# Altium integrated library 6339160-1.IntLib: 1 symbol
Pins are listed as number, name and electrical type; pins without a type are passive.

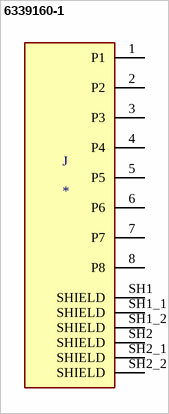
[diagram p0: symbol 6339160-1]

## 6339160-1
designator J
PCB Mounted Jacks - Single Port, Multi-port and Stacked MJ, RJ45, SMT, SHLD, PANEL GRD; MP: 6339160-1; Centerline_Pitch: 1.02 mm[.04 in]; MF: TE Connectivity; Number_of_Positions: 8; EU_RoHS_Compliance: Compliant; Availability: Unavailable; SnapEDA_Link: https://www.snapeda.com/parts/6339160-1/TE%20Connectivity%20AMP%20Connectors/view-part/517213/?ref=snap; TE_purchase_URL: https://www.te.com/usa-en/product-6339160-1.html?te_bu=Cor&te_type=disp&te_campaign=seda_glo_cor-seda-global-disp-prtnr-fy19-seda-model-bom-cta_sma-317_1&elqCampaignId=32493; Package: None; Price: None; Value: *
footprint TE_6339160-1
pins: 1 P1, 2 P2, 3 P3, 4 P4, 5 P5, 6 P6, 7 P7, 8 P8, SH1 SHIELD, SH1_1 SHIELD, SH1_2 SHIELD, SH2 SHIELD, SH2_1 SHIELD, SH2_2 SHIELD